# Altium footprint library Footprints.PcbLib: 26 footprints (part 2 of 2)
Each footprint in its own frame and in the unit in brackets; x right, y up, seen from the top. Pads: shape width x height; smd on the part's side, far side on the other; paste and mask are expansions set on the pad; w line width, h text height; cw(c..) or ccw(c..) is an arc to the next point about the centre after c.
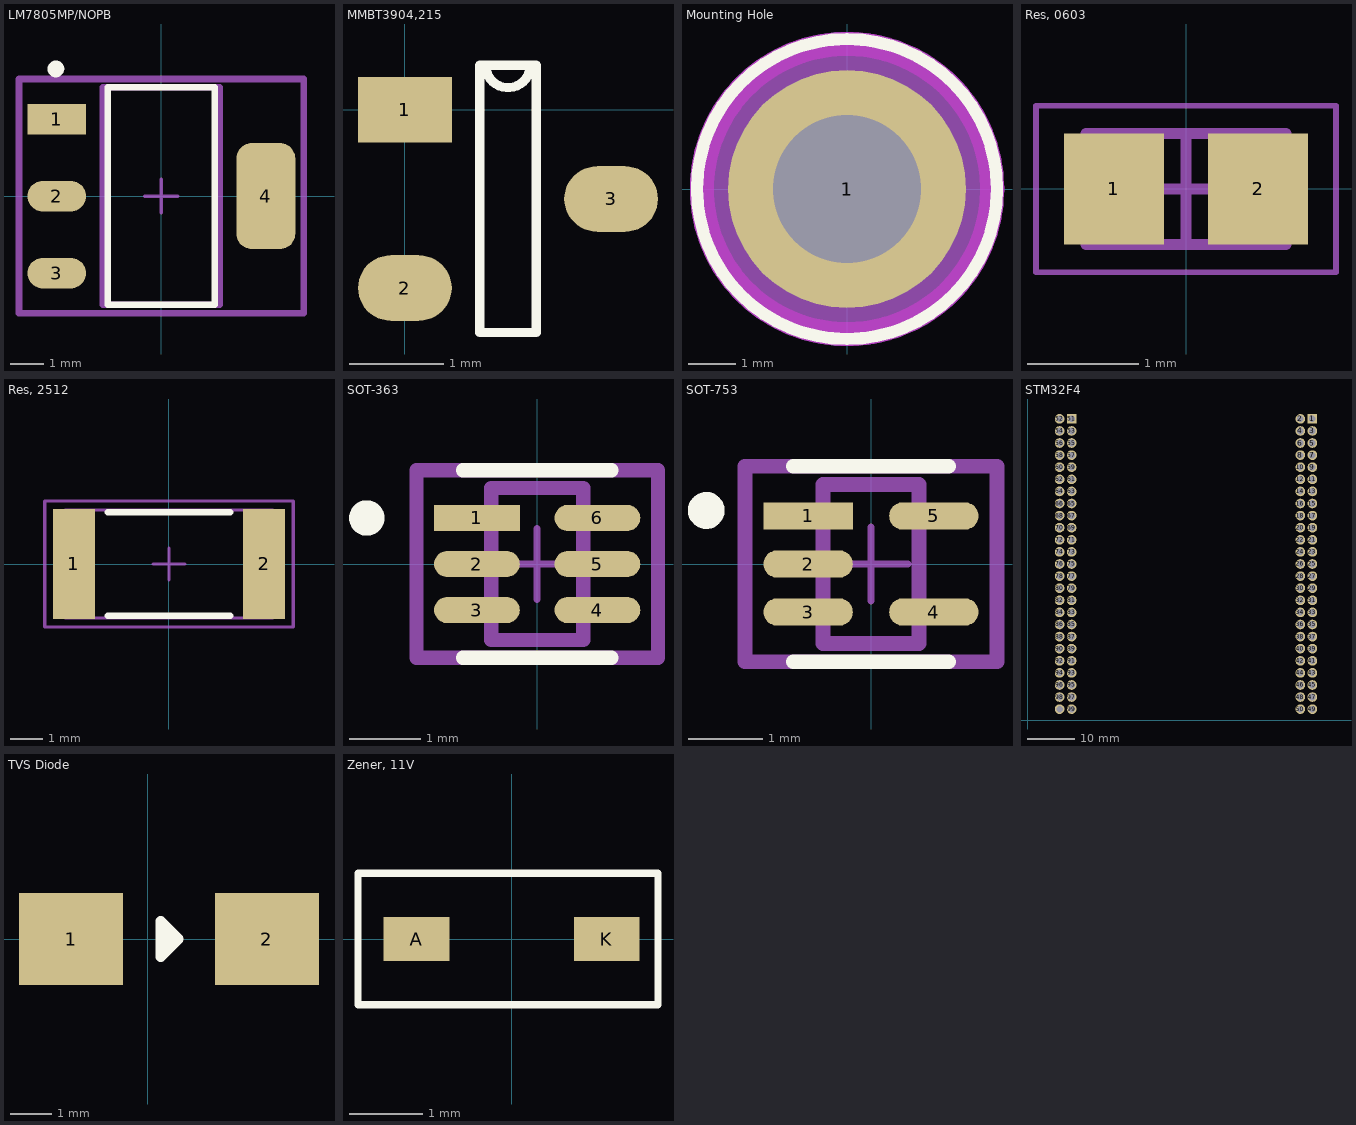
[diagram p1: the footprints below, top view; thin cyan lines are the x and y axes]

## LM7805MP/NOPB [mm]
pads (4):
  rect 1.754x0.913 smd paste+0 mask+0: 1(-3.125,2.3)
  rrect100% 1.754x0.913 smd paste+0 mask+0: 2(-3.125,0) 3(-3.125,-2.3)
  rrect52% 1.754x3.172 smd paste+0 mask+0: 4(3.125,0)
Top Overlay:
  circle w0.25: c-3.15,3.8 r0.125
  lines w0.2: -1.6,-3.25 1.6,-3.25 1.6,3.25 -1.6,3.25 -1.6,-3.25
Top Assembly:
  lines w0.2: -4.252,-3.5 4.252,-3.5 4.252,3.5 -4.252,3.5 -4.252,-3.5
  text ".Designator" at 0,0.188 h1
Top 3D Body:
  lines w0.2: -1.75,-3.25 1.75,-3.25 1.75,3.25 -1.75,3.25 -1.75,-3.25
Top Courtyard:
  lines w0.2: -4.252,-3.5 4.252,-3.5 4.252,3.5 -4.252,3.5 -4.252,-3.5
Top Component Center:
  lines w0.1: -0.5,0 0.5,0 ; 0,-0.5 0,0.5
3D body "IC_Texas_Instruments_UA78M33CDCY_eec.STEP": height 0.25, standoff 0, extent -4.252,-3.5 4.252,3.5

## MMBT3904,215 [mm]
pads (3):
  rect 1x0.7 smd: 1(0,0)
  oval 1x0.7 smd: 2(0,-1.9) 3(2.2,-0.95)
Top Overlay:
  lines w0.1: 0.8,-2.375 0.8,0.475 1.338,0.475 cw(c1.1,0.475) 0.863,0.475 1.4,0.475 1.4,-2.375 0.8,-2.375
3D body "SW3DPS-SOT-23-DEFAULT.STEP": height 1.06, standoff -0.04, extent -0.25,-2.4 2.25,0.6

## Mounting Hole [mm]
pads (1):
  round 5 hole 3.1: 1(0,0)
Top Overlay:
  circle w0.254: c0,0 r3.15
Bottom Overlay:
  circle w0.254: c0,0 r3.15
Keep-Out Layer:
  circle w0.508: c0,0 r3.048
Mechanical 1:
  circle w1.016: c0,0 r2.794
3D body "93655A095_MALE-FEMALE THREADED HEX STANDOFF.STEP": height 4.19, standoff -8.51, extent -2.25,-2.598 2.25,2.598

## Res, 0603 [mm] "Chip Resistor, 2-Leads, Body 1.60x0.80mm, IPC Medium Density"
height 0.5
pads (2):
  rect 0.9x1 smd: 1(-0.65,0) 2(0.65,0)
Top 3D Body:
  lines w0.1: -0.9,-0.5 0.9,-0.5 0.9,0.5 -0.9,0.5 -0.9,-0.5
Top Courtyard:
  lines w0.05: -1.35,-0.75 1.35,-0.75 1.35,0.75 -1.35,0.75 -1.35,-0.75
  lines w0.1: -0.5,0 0.5,0 ; 0,-0.5 0,0.5
3D body: height 0.5, standoff 0, extent 0.6,-0.5 0.9,0.5
3D body: height 0.5, standoff 0, extent -0.9,-0.5 -0.6,0.5
3D body: height 0.5, standoff 0, extent -0.6,-0.5 0.6,0.5

## Res, 2512 [mm]
pads (2):
  rect 1.3x3.4 smd: 1(-2.95,0) 2(2.95,0)
Top Overlay:
  lines w0.2: -1.9,-1.6 1.9,-1.6 ; -1.9,1.6 1.9,1.6
Top 3D Body:
  lines w0.1: -3.225,-1.675 -3.225,1.675 3.225,1.675 3.225,-1.675 -3.225,-1.675
  text ".Designator" at -3.9,-0.6 h0.76
Top Courtyard:
  lines w0.1: -0.5,0 0.5,0 ; 0,-0.5 0,0.5 ; -3.85,-1.95 -3.85,1.95 3.85,1.95 3.85,-1.95 -3.85,-1.95
3D body "User Library-RESC6432X06.step": height 0.6, standoff 0, extent -3.2,-1.6 3.2,1.6

## SOT-363 [mil]
pads (6):
  rect 47.65x14.65 smd paste+0 mask+0: 1(-33.5,25.59)
  rrect100% 47.65x14.65 smd paste+0 mask+0: 2(-33.5,0) 3(-33.5,-25.59) 4(33.5,-25.59) 5(33.5,0) 6(33.5,25.59)
Top Overlay:
  circle w9.84: c-94.73,25.59 r4.92
  lines w7.87: -41.34,-52.17 41.34,-52.17 ; -41.34,52.17 41.34,52.17
Top Assembly:
  lines w7.87: -67.17,-52.17 67.17,-52.17 67.17,52.17 -67.17,52.17 -67.17,-52.17
  text ".Designator" at 0,7.39 h39.37
Top 3D Body:
  lines w7.87: -25.59,-42.32 25.59,-42.32 25.59,42.32 -25.59,42.32 -25.59,-42.32
Top Courtyard:
  lines w7.87: -67.17,-52.17 67.17,-52.17 67.17,52.17 -67.17,52.17 -67.17,-52.17
Top Component Center:
  lines w3.94: -19.68,0 19.68,0 ; 0,-19.68 0,19.68
3D body "Trans_Diodes_BSS8402DW-7-F_eec.STEP": height 10, standoff 0, extent -67.17,-52.17 67.17,52.17

## SOT-753 [mil]
pads (5):
  rect 47.65x14.65 smd paste+0 mask+0: 1(-33.5,25.59)
  rrect100% 47.65x14.65 smd paste+0 mask+0: 2(-33.5,0) 3(-33.5,-25.59) 4(33.5,-25.59) 5(33.5,25.59)
Top Overlay:
  circle w9.84: c-87.84,28.54 r4.92
  lines w7.87: -41.34,-52.17 41.34,-52.17 ; -41.34,52.17 41.34,52.17
Top Assembly:
  lines w7.87: -67.17,-52.17 -67.17,52.17 67.17,52.17 67.17,-52.17 -67.17,-52.17
Top 3D Body:
  lines w7.87: -25.59,-42.32 -25.59,42.32 25.59,42.32 25.59,-42.32 -25.59,-42.32
Top Courtyard:
  lines w7.87: -67.17,-52.17 -67.17,52.17 67.17,52.17 67.17,-52.17 -67.17,-52.17
Top Component Center:
  lines w3.94: -19.68,0 19.68,0 ; 0,-19.68 0,19.68
3D body "IC_Diodes_Inc_74LVC1G07SE-7_eec.STEP": height 10, standoff 0, extent -67.17,-52.17 67.17,52.17

## STM32F4 [mil]
pads (100):
  rect 80x80 hole 55 paste-39370.1 mask+0: 1(2354.68,2490) 51(365,2490)
  round 80 hole 55 paste-39370.1 mask+0: 2(2254.68,2490) 3(2354.68,2390) 4(2254.68,2390) 5(2354.68,2290) 6(2254.68,2290) 7(2354.68,2190) 8(2254.68,2190) 9(2354.68,2090) 10(2254.68,2090) 11(2354.68,1990) 12(2254.68,1990) 13(2354.68,1890) 14(2254.68,1890) 15(2354.68,1790) 16(2254.68,1790) 17(2354.68,1690) 18(2254.68,1690) 19(2354.68,1590) 20(2254.68,1590) 21(2354.68,1490) 22(2254.68,1490) 23(2354.68,1390) 24(2254.68,1390) 25(2354.68,1290) 26(2254.68,1290) 27(2354.68,1190) 28(2254.68,1190) 29(2354.68,1090) 30(2254.68,1090) 31(2354.68,990) 32(2254.68,990) 33(2354.68,890) 34(2254.68,890) 35(2354.68,790) 36(2254.68,790) 37(2354.68,690) 38(2254.68,690) 39(2354.68,590) 40(2254.68,590) 41(2354.68,490) 42(2254.68,490) 43(2354.68,390) 44(2254.68,390) 45(2354.68,290) 46(2254.68,290) 47(2354.68,190) 48(2254.68,190) 49(2354.68,90) 50(2254.68,90) 52(265,2490) 53(365,2390) 54(265,2390) 55(365,2290) 56(265,2290) 57(365,2190) 58(265,2190) 59(365,2090) 60(265,2090) 61(365,1990) 62(265,1990) 63(365,1890) 64(265,1890) 65(365,1790) 66(265,1790) 67(365,1690) 68(265,1690) 69(365,1590) 70(265,1590) 71(365,1490) 72(265,1490) 73(365,1390) 74(265,1390) 75(365,1290) 76(265,1290) 77(365,1190) 78(265,1190) 79(365,1090) 80(265,1090) 81(365,990) 82(265,990) 83(365,890) 84(265,890) 85(365,790) 86(265,790) 87(365,690) 88(265,690) 89(365,590) 90(265,590) 91(365,490) 92(265,490) 93(365,390) 94(265,390) 95(365,290) 96(265,290) 97(365,190) 98(265,190) 99(365,90) 100(265,90)
3D body "IC_STMicroelectronics_STM32F407G-DISC1_eec.STEP": height 155.59, standoff -749.92, extent 0.79,-156.14 2599.21,3881.89

## TVS Diode [mm]
pads (2):
  rect 2.5x2.2 smd: 1(-1.842,0) 2(2.858,0)
Top Overlay:
  lines w0.254: 0.458,-0.175 0.458,0.275 0.308,0.425 ; 0.308,0.425 0.308,-0.425 0.733,0 ; 0.308,0.425 0.733,0 ; 0.308,0.425 0.308,0.425 ; 0.733,0 0.733,0
3D body "User Library-DO-214AC(SMA).step": height 2.26, standoff -0.03, extent -2.235,-1.397 3.251,1.397

## Zener, 11V [mm]
pads (2):
  rect 0.9x0.6 smd: A(-1.3,0) K(1.3,0)
Top Overlay:
  lines w0.1: -2.1,-0.9 2,-0.9 2,0.9 -2.1,0.9 -2.1,0 -2.1,-0.9
3D body "User Library-SOD323F.step": height 0.75, standoff -0.01, extent -1.4,-0.675 1.4,0.675